# EAGLE library part TCA9543A-PW (library U-TI-TCA9543A-I2C-2-to-1-multiplexer)
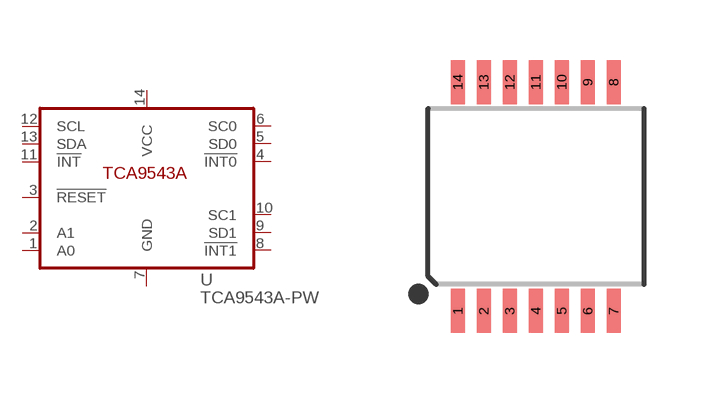
[diagram p0: symbol with the pads of TSSOP14-0.65-5.4X4.4MM; footprint TSSOP14-0.65-5.4X4.4MM]

Designator prefix U

## TCA9543A-PW  [TSSOP14-0.65-5.4X4.4MM]
1  A0  in
2  A1  in
3  !RESET  in
4  !INT0  in
5  SD0
6  SC0  out
7  GND  pwr
8  !INT1  in
9  SD1
10  SC1  out
11  !INT  oc
12  SCL  in
13  SDA
14  VCC  pwr

## Footprint TSSOP14-0.65-5.4X4.4MM (pad centres in mm)
TSSOP-14
smd 0.35 x 1.1: 1 -1.95,-2.86; 2 -1.3,-2.86; 3 -0.65,-2.86; 4 0,-2.86; 5 0.65,-2.86; 6 1.3,-2.86; 7 1.95,-2.86; 8 1.95,2.86; 9 1.3,2.86; 10 0.65,2.86; 11 0,2.86; 12 -0.65,2.86; 13 -1.3,2.86; 14 -1.95,2.86